# EAGLE library part N2510-6V0C-RB-WD (library 3M_By_element14_Batch_1)
Header
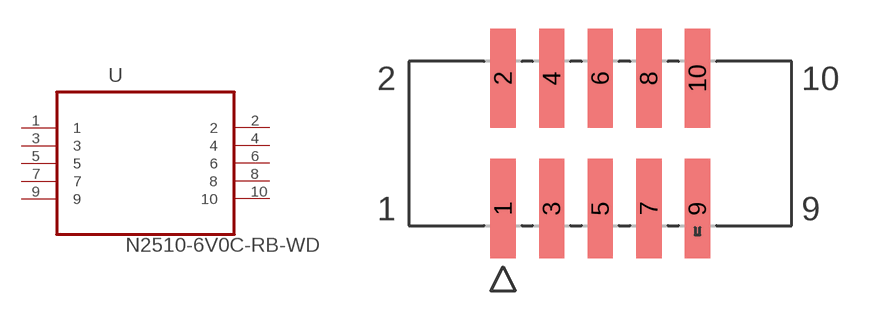
[diagram p84: symbol with the pads of 3M_N2510-6V0C-RB-WD; footprint 3M_N2510-6V0C-RB-WD]

Designator prefix U

## N2510-6V0C-RB-WD (MPN: N2510-6V0C-RB-WD; OC_FARNELL: 1428501; OC_NEWARK: 02P7333; PACKAGE: Header-10Pin; SUPPLIER: 3M)  [3M_N2510-6V0C-RB-WD]
1  1  pas
2  2  pas
3  3  pas
4  4  pas
5  5  pas
6  6  pas
7  7  pas
8  8  pas
9  9  pas
10  10  pas

## Footprint 3M_N2510-6V0C-RB-WD (pad centres in mm)
smd 1.321 x 5.182: 1 -5.08,-3.404; 2 -5.08,3.404; 3 -2.54,-3.404; 4 -2.54,3.404; 5 0,-3.404; 6 0,3.404; 7 2.54,-3.404; 8 2.54,3.404; 9 5.08,-3.404; 10 5.08,3.404